# Altium schematic symbol library AD5160.SchLib: 2 symbols
Pins are listed as number, name and electrical type; pins without a type are passive.

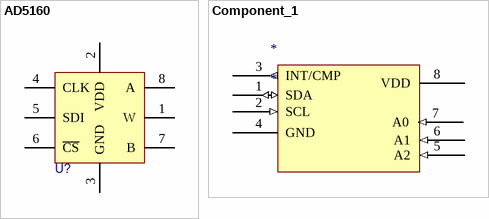
[diagram p0: symbols AD5160 to Component_1]

## AD5160
designator U?  (value not drawn)
pins: 1 W, 2 VDD, 3 GND, 4 CLK, 5 SDI, 6 ~{CS}, 7 B, 8 A

## Component_1
designator *
pins: 1 SDA (io), 2 SCL (in), 3 INT/CMP (out), 4 GND (power), 5 A2 (in), 6 A1 (in), 7 A0 (in), 8 VDD (power)